# Altium schematic symbol library blackbox.SchLib: 1 symbol
Pins are listed as number, name and electrical type; pins without a type are passive.

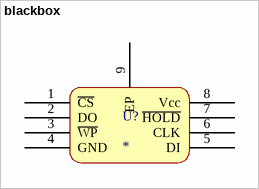
[diagram p0: symbol blackbox]

## blackbox
designator U?
footprint blackbox
pins: 1 ~{CS}, 2 DO, 3 ~{WP}, 4 GND, 5 DI, 6 CLK, 7 ~{HOLD}, 8 Vcc, 9 EP